# EAGLE library part PIC24FJ*GA106 (library Microchip)
General Purpose Flash Microcontroller
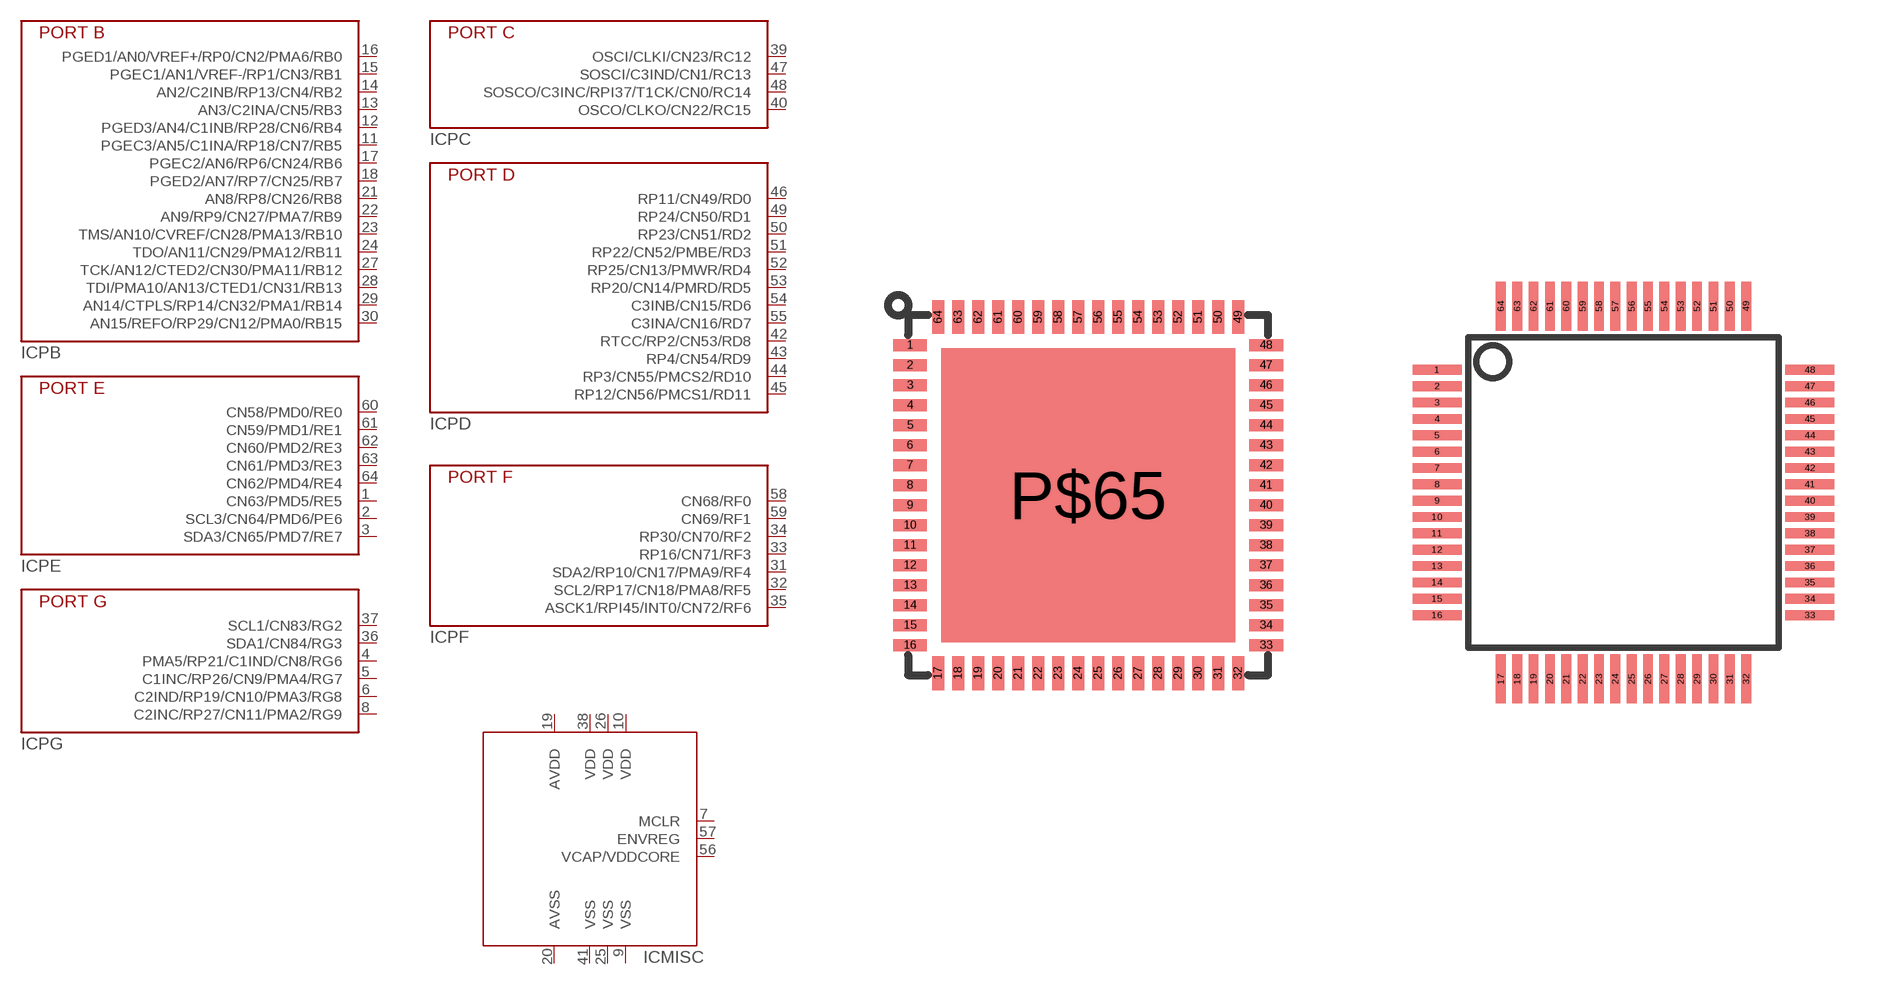
[diagram p34: symbol with the pads of QFN64-MR; footprints QFN64-MR, TQ64-PT]

Designator prefix IC; gates PB=PIC24FJXXXGA106-PB PC=PIC24FJXXXGA106-PC PD=PIC24FJXXXGA106-PD PE=PIC24FJXXXGA106-PE PF=PIC24FJXXXGA106-PF PG=PIC24FJXXXGA106-PG MISC=PIC24FJXXXGA106-MISC

## PIC24FJGA106-MR  [QFN64-MR]
1  PE:CN63/PMD5/RE5
2  PE:SCL3/CN64/PMD6/PE6
3  PE:SDA3/CN65/PMD7/RE7
4  PG:PMA5/RP21/C1IND/CN8/RG6
5  PG:C1INC/RP26/CN9/PMA4/RG7
6  PG:C2IND/RP19/CN10/PMA3/RG8
7  MISC:MCLR
8  PG:C2INC/RP27/CN11/PMA2/RG9
9  MISC:VSS
10  MISC:VDD
11  PB:PGEC3/AN5/C1INA/RP18/CN7/RB5
12  PB:PGED3/AN4/C1INB/RP28/CN6/RB4
13  PB:AN3/C2INA/CN5/RB3
14  PB:AN2/C2INB/RP13/CN4/RB2
15  PB:PGEC1/AN1/VREF-/RP1/CN3/RB1
16  PB:PGED1/AN0/VREF+/RP0/CN2/PMA6/RB0
17  PB:PGEC2/AN6/RP6/CN24/RB6
18  PB:PGED2/AN7/RP7/CN25/RB7
19  MISC:AVDD
20  MISC:AVSS
21  PB:AN8/RP8/CN26/RB8
22  PB:AN9/RP9/CN27/PMA7/RB9
23  PB:TMS/AN10/CVREF/CN28/PMA13/RB10
24  PB:TDO/AN11/CN29/PMA12/RB11
25  MISC:VSS
26  MISC:VDD
27  PB:TCK/AN12/CTED2/CN30/PMA11/RB12
28  PB:TDI/PMA10/AN13/CTED1/CN31/RB13
29  PB:AN14/CTPLS/RP14/CN32/PMA1/RB14
30  PB:AN15/REFO/RP29/CN12/PMA0/RB15
31  PF:SDA2/RP10/CN17/PMA9/RF4
32  PF:SCL2/RP17/CN18/PMA8/RF5
33  PF:RP16/CN71/RF3
34  PF:RP30/CN70/RF2
35  PF:ASCK1/RPI45/INT0/CN72/RF6
36  PG:SDA1/CN84/RG3
37  PG:SCL1/CN83/RG2
38  MISC:VDD
39  PC:OSCI/CLKI/CN23/RC12
40  PC:OSCO/CLKO/CN22/RC15
41  MISC:VSS
42  PD:RTCC/RP2/CN53/RD8
43  PD:RP4/CN54/RD9
44  PD:RP3/CN55/PMCS2/RD10
45  PD:RP12/CN56/PMCS1/RD11
46  PD:RP11/CN49/RD0
47  PC:SOSCI/C3IND/CN1/RC13
48  PC:SOSCO/C3INC/RPI37/T1CK/CN0/RC14
49  PD:RP24/CN50/RD1
50  PD:RP23/CN51/RD2
51  PD:RP22/CN52/PMBE/RD3
52  PD:RP25/CN13/PMWR/RD4
53  PD:RP20/CN14/PMRD/RD5
54  PD:C3INB/CN15/RD6
55  PD:C3INA/CN16/RD7
56  MISC:VCAP/VDDCORE
57  MISC:ENVREG
58  PF:CN68/RF0
59  PF:CN69/RF1
60  PE:CN58/PMD0/RE0
61  PE:CN59/PMD1/RE1
62  PE:CN60/PMD2/RE3
63  PE:CN61/PMD3/RE3
64  PE:CN62/PMD4/RE4

## PIC24FJGA106-PT  [TQ64-PT]
Pads as for QFN64-MR

## Footprint QFN64-MR (pad centres in mm)
64-Lead Plastic Quad Flat, No Lead Package (MR) - 9x9x0.0mm Body (QFN)
smd 0.85 x 0.3: 1 -4.45,3.75; 2 -4.45,3.25; 3 -4.45,2.75; 4 -4.45,2.25; 5 -4.45,1.75; 6 -4.45,1.25; 7 -4.45,0.75; 8 -4.45,0.25; 9 -4.45,-0.25; 10 -4.45,-0.75; 11 -4.45,-1.25; 12 -4.45,-1.75; 13 -4.45,-2.25; 14 -4.45,-2.75; 15 -4.45,-3.25; 16 -4.45,-3.75; 33 4.45,-3.75; 34 4.45,-3.25; 35 4.45,-2.75; 36 4.45,-2.25; 37 4.45,-1.75; 38 4.45,-1.25; 39 4.45,-0.75; 40 4.45,-0.25; 41 4.45,0.25; 42 4.45,0.75; 43 4.45,1.25; 44 4.45,1.75; 45 4.45,2.25; 46 4.45,2.75; 47 4.45,3.25; 48 4.45,3.75
smd 0.3 x 0.85: 17 -3.75,-4.45; 18 -3.25,-4.45; 19 -2.75,-4.45; 20 -2.25,-4.45; 21 -1.75,-4.45; 22 -1.25,-4.45; 23 -0.75,-4.45; 24 -0.25,-4.45; 25 0.25,-4.45; 26 0.75,-4.45; 27 1.25,-4.45; 28 1.75,-4.45; 29 2.25,-4.45; 30 2.75,-4.45; 31 3.25,-4.45; 32 3.75,-4.45; 49 3.75,4.45; 50 3.25,4.45; 51 2.75,4.45; 52 2.25,4.45; 53 1.75,4.45; 54 1.25,4.45; 55 0.75,4.45; 56 0.25,4.45; 57 -0.25,4.45; 58 -0.75,4.45; 59 -1.25,4.45; 60 -1.75,4.45; 61 -2.25,4.45; 62 -2.75,4.45; 63 -3.25,4.45; 64 -3.75,4.45
smd 7.35 x 7.35: P$65 0,0

## Footprint TQ64-PT (pad centres in mm)
TQFP 64 pin, 0.5mm pitch, 16x16, Microchip PT package
smd 1.5 x 0.3: 1 -5.7,3.75; 2 -5.7,3.25; 3 -5.7,2.75; 4 -5.7,2.25; 5 -5.7,1.75; 6 -5.7,1.25; 7 -5.7,0.75; 8 -5.7,0.25; 9 -5.7,-0.25; 10 -5.7,-0.75; 11 -5.7,-1.25; 12 -5.7,-1.75; 13 -5.7,-2.25; 14 -5.7,-2.75; 15 -5.7,-3.25; 16 -5.7,-3.75; 33 5.7,-3.75; 34 5.7,-3.25; 35 5.7,-2.75; 36 5.7,-2.25; 37 5.7,-1.75; 38 5.7,-1.25; 39 5.7,-0.75; 40 5.7,-0.25; 41 5.7,0.25; 42 5.7,0.75; 43 5.7,1.25; 44 5.7,1.75; 45 5.7,2.25; 46 5.7,2.75; 47 5.7,3.25; 48 5.7,3.75
smd 0.3 x 1.5: 17 -3.75,-5.7; 18 -3.25,-5.7; 19 -2.75,-5.7; 20 -2.25,-5.7; 21 -1.75,-5.7; 22 -1.25,-5.7; 23 -0.75,-5.7; 24 -0.25,-5.7; 25 0.25,-5.7; 26 0.75,-5.7; 27 1.25,-5.7; 28 1.75,-5.7; 29 2.25,-5.7; 30 2.75,-5.7; 31 3.25,-5.7; 32 3.75,-5.7; 49 3.75,5.7; 50 3.25,5.7; 51 2.75,5.7; 52 2.25,5.7; 53 1.75,5.7; 54 1.25,5.7; 55 0.75,5.7; 56 0.25,5.7; 57 -0.25,5.7; 58 -0.75,5.7; 59 -1.25,5.7; 60 -1.75,5.7; 61 -2.25,5.7; 62 -2.75,5.7; 63 -3.25,5.7; 64 -3.75,5.7